# Altium integrated library Linear Technology Power Management System Supervisor, Monitor and Control.IntLib: 1611 symbols (part 52 of 100)
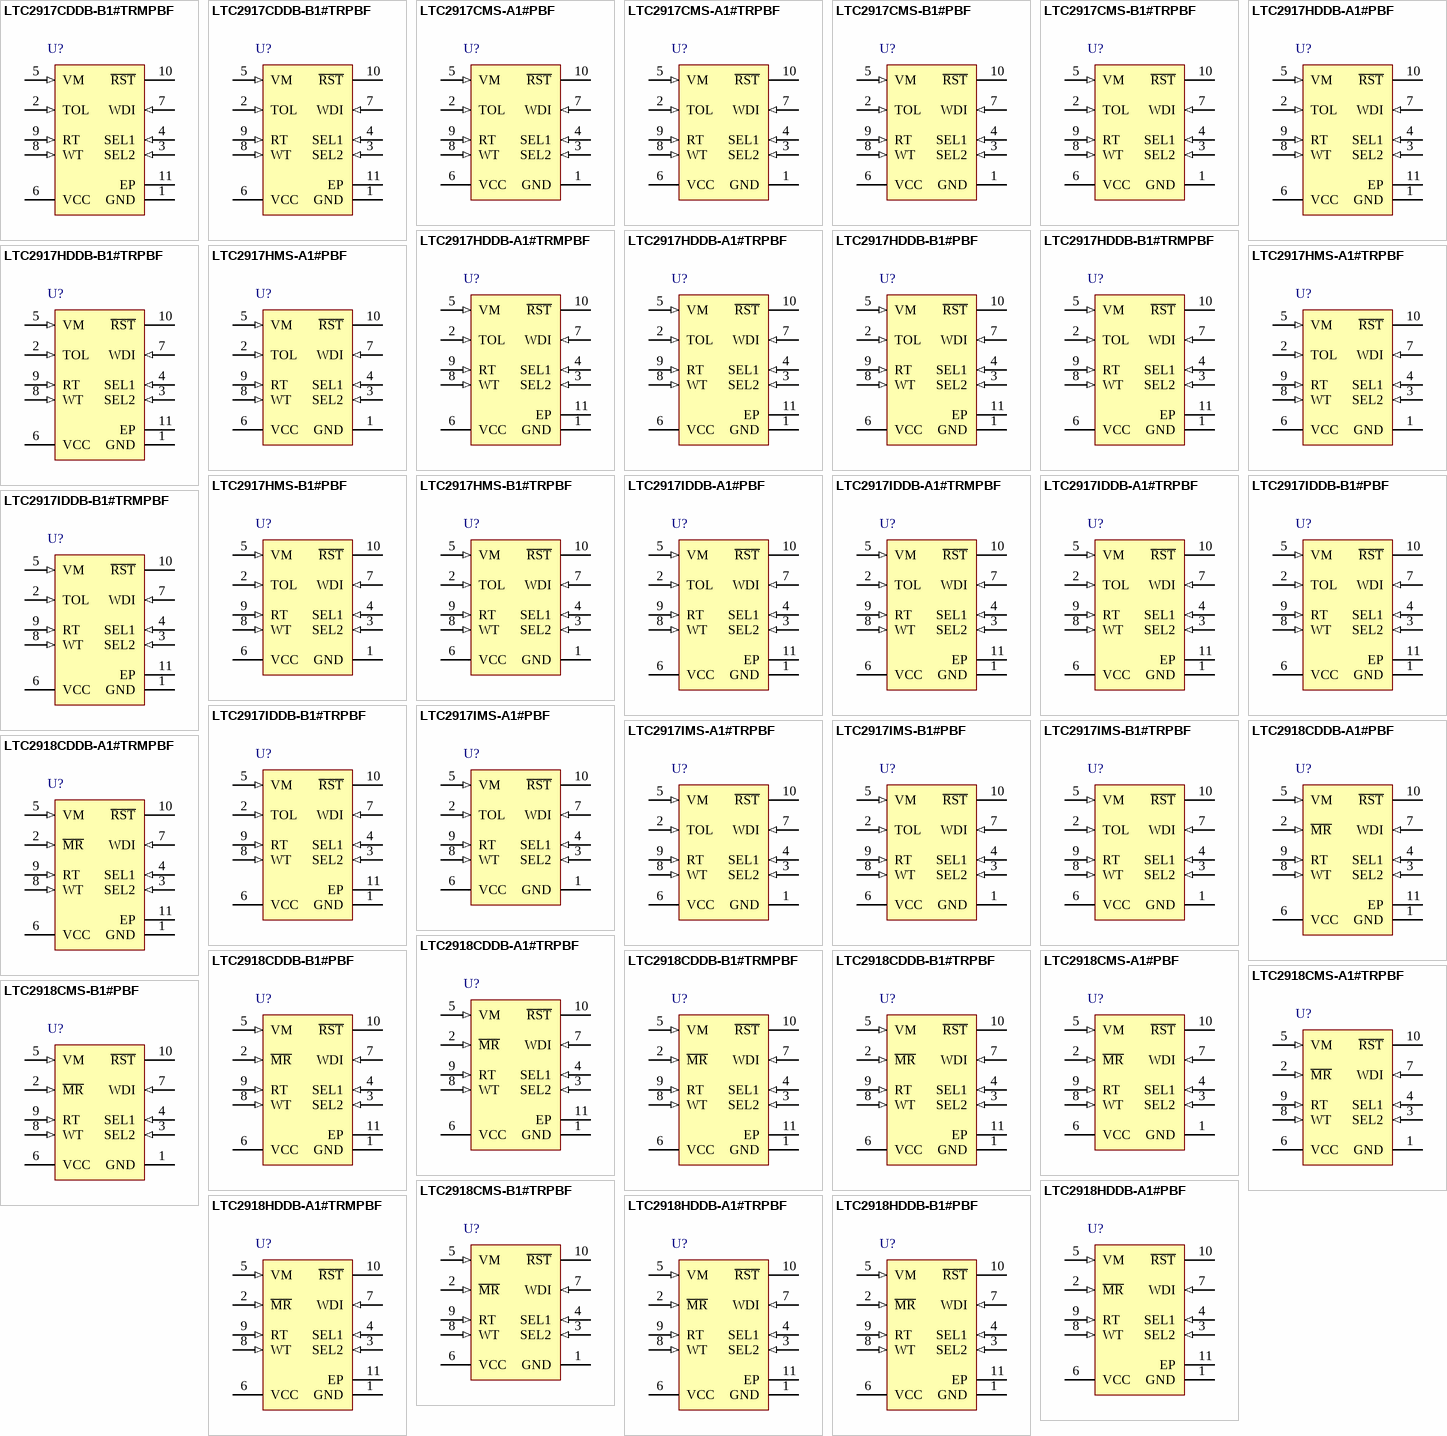
[diagram p96: symbols LTC2917CDDB-B1#TRMPBF to LTC2918HDDB-B1#PBF]

## LTC2918CDDB-A1#TRMPBF
designator U?
Low Voltage Supervisor with 27 Selectable Thresholds and Watchdog Timer, 10-pin SON (DDB10), 0 to 70 degC, Pb-Free, Mini Tape and Reel; Manufacturer: Linear Technology; PartNumber: LTC2918CDDB-A1#TRMPBF; Number of Supplies(#): 1; DatasheetVersion: Rev. B; PackageVersion: Rev. Ø, 06/2010; PackageReference: DDB10; PackageDescription: 10-Pin Plastic DFN, Body 3 x 2 mm, Pitch 0.5 mm; Supplier 1: Digi-Key; Supplier Part Number 1: LTC2918CDDB-A1#TRMPBF-ND; Packing: Mini Tape and Reel; RoHS: TRUE; Mounting Technology: Surface Mount; Code_JEDEC: MO-229; ComponentLink1Description: Manufacturer URL; ComponentLink1URL: http://www.linear.com/; ComponentLink2Description: Datasheet; ComponentLink2URL: http://cds.linear.com/docs/en/datasheet/29178fb.pdf; ComponentLink3Description: Package Specification; ComponentLink3URL: http://cds.linear.com/docs/en/packaging/DFN_10_05-08-1722.pdf
footprint LT-DDB-10_V (SON, 10-Leads, Body 3x2mm, Pitch 0.5mm, Thermal Pad 2.39x0.64mm)
pins: 1 GND (power) "Device Ground.", 2 ~{MR} (in) "Manual Reset Input (Active Low). A low level on the M\R\ input causes the part to issue a reset, which is released one reset timeout after the input goes high. The pin has an internal 100k pull-up to VCC, and thus may (See Datasheet)", 3 SEL2 (in) "Monitor Voltage Select Three-State Input. SEL1, and SEL2 control the nominal threshold voltage that VM is set to monitor. Connect to VCC, GND or leave unconnected in open state. (See Table 1).", 4 SEL1 (in) "Monitor Voltage Select Three-State Input. SEL1, and SEL2 control the nominal threshold voltage that VM is set to monitor. Connect to VCC, GND or leave unconnected in open state. (See Table 1).", 5 VM (in) "Voltage Monitor Input to R\S\T\ comparator. SEL1, SEL2 and TOL inputs select the exact threshold that asserts the R\S\T\ output.", 6 VCC (power) "Power Supply input. Bypass this pin to ground with a 0.1uF ceramic capacitor. A minimum of 1.5V on VCC ensures that the part is out of under voltage lockout and that the voltage thresholds are accurate. Operates as a direct (See Datasheet)", 7 WDI (in) "Watchdog Input. This pin must be driven to change state within a time less than the watchdog upper boundary time, or R\S\T\ will be asserted low. On the LTC2917-B, LTC2918-B, the period must also be greater than the watchdog (See Datasheet)", 8 WT (in) "Watchdog Timer Control Pin. Attach an external capacitor (CWT) to GND to set a watchdog upper boundary timeout time of 72ms/nF. Tie WT to VCC to generate a timeout of approximately 1.6s. Leave WT open to generate a timeout (See Datasheet)", 9 RT (in) "Reset Timeout Control Pin. Attach an external capacitor (CRT) to GND to set a reset timeout of 9ms/nF. Leave RT open to generate a reset timeout of approximately 400us. Tie RT to VCC to generate a reset timeout of (See Datasheet)", 10 ~{RST} (oc) "Open Drain R\S\T\ Output. Asserts low when VM is below the threshold selected by SEL1, SEL2 and TOL input pins. Held low for an adjustable timeout after VM input is above threshold.", 11 EP (power) "Exposed Pad may be left open or connected to device ground."

## LTC2918CDDB-A1#TRPBF
designator U?
Low Voltage Supervisor with 27 Selectable Thresholds and Watchdog Timer, 10-pin SON (DDB10), 0 to 70 degC, Pb-Free, Tape and Reel; Manufacturer: Linear Technology; PartNumber: LTC2918CDDB-A1#TRPBF; Number of Supplies(#): 1; DatasheetVersion: Rev. B; PackageVersion: Rev. Ø, 06/2010; PackageReference: DDB10; PackageDescription: 10-Pin Plastic DFN, Body 3 x 2 mm, Pitch 0.5 mm; Supplier 1: Digi-Key; Supplier Part Number 1: LTC2918CDDB-A1#TRPBF-ND; Packing: Tape and Reel; RoHS: TRUE; Mounting Technology: Surface Mount; Code_JEDEC: MO-229; ComponentLink1Description: Manufacturer URL; ComponentLink1URL: http://www.linear.com/; ComponentLink2Description: Datasheet; ComponentLink2URL: http://cds.linear.com/docs/en/datasheet/29178fb.pdf; ComponentLink3Description: Package Specification; ComponentLink3URL: http://cds.linear.com/docs/en/packaging/DFN_10_05-08-1722.pdf
footprint LT-DDB-10_V (SON, 10-Leads, Body 3x2mm, Pitch 0.5mm, Thermal Pad 2.39x0.64mm)
pins: 1 GND (power) "Device Ground.", 2 ~{MR} (in) "Manual Reset Input (Active Low). A low level on the M\R\ input causes the part to issue a reset, which is released one reset timeout after the input goes high. The pin has an internal 100k pull-up to VCC, and thus may (See Datasheet)", 3 SEL2 (in) "Monitor Voltage Select Three-State Input. SEL1, and SEL2 control the nominal threshold voltage that VM is set to monitor. Connect to VCC, GND or leave unconnected in open state. (See Table 1).", 4 SEL1 (in) "Monitor Voltage Select Three-State Input. SEL1, and SEL2 control the nominal threshold voltage that VM is set to monitor. Connect to VCC, GND or leave unconnected in open state. (See Table 1).", 5 VM (in) "Voltage Monitor Input to R\S\T\ comparator. SEL1, SEL2 and TOL inputs select the exact threshold that asserts the R\S\T\ output.", 6 VCC (power) "Power Supply input. Bypass this pin to ground with a 0.1uF ceramic capacitor. A minimum of 1.5V on VCC ensures that the part is out of under voltage lockout and that the voltage thresholds are accurate. Operates as a direct (See Datasheet)", 7 WDI (in) "Watchdog Input. This pin must be driven to change state within a time less than the watchdog upper boundary time, or R\S\T\ will be asserted low. On the LTC2917-B, LTC2918-B, the period must also be greater than the watchdog (See Datasheet)", 8 WT (in) "Watchdog Timer Control Pin. Attach an external capacitor (CWT) to GND to set a watchdog upper boundary timeout time of 72ms/nF. Tie WT to VCC to generate a timeout of approximately 1.6s. Leave WT open to generate a timeout (See Datasheet)", 9 RT (in) "Reset Timeout Control Pin. Attach an external capacitor (CRT) to GND to set a reset timeout of 9ms/nF. Leave RT open to generate a reset timeout of approximately 400us. Tie RT to VCC to generate a reset timeout of (See Datasheet)", 10 ~{RST} (oc) "Open Drain R\S\T\ Output. Asserts low when VM is below the threshold selected by SEL1, SEL2 and TOL input pins. Held low for an adjustable timeout after VM input is above threshold.", 11 EP (power) "Exposed Pad may be left open or connected to device ground."

## LTC2918CDDB-B1#PBF
designator U?
Low Voltage Supervisor with 27 Selectable Thresholds and Watchdog Timer, 10-pin SON (DDB10), 0 to 70 degC, Pb-Free; Manufacturer: Linear Technology; PartNumber: LTC2918CDDB-B1#PBF; Number of Supplies(#): 1; DatasheetVersion: Rev. B; PackageVersion: Rev. Ø, 06/2010; PackageReference: DDB10; PackageDescription: 10-Pin Plastic DFN, Body 3 x 2 mm, Pitch 0.5 mm; RoHS: TRUE; Mounting Technology: Surface Mount; Code_JEDEC: MO-229; ComponentLink1Description: Manufacturer URL; ComponentLink1URL: http://www.linear.com/; ComponentLink2Description: Datasheet; ComponentLink2URL: http://cds.linear.com/docs/en/datasheet/29178fb.pdf; ComponentLink3Description: Package Specification; ComponentLink3URL: http://cds.linear.com/docs/en/packaging/DFN_10_05-08-1722.pdf
footprint LT-DDB-10_V (SON, 10-Leads, Body 3x2mm, Pitch 0.5mm, Thermal Pad 2.39x0.64mm)
pins: 1 GND (power) "Device Ground.", 2 ~{MR} (in) "Manual Reset Input (Active Low). A low level on the M\R\ input causes the part to issue a reset, which is released one reset timeout after the input goes high. The pin has an internal 100k pull-up to VCC, and thus may (See Datasheet)", 3 SEL2 (in) "Monitor Voltage Select Three-State Input. SEL1, and SEL2 control the nominal threshold voltage that VM is set to monitor. Connect to VCC, GND or leave unconnected in open state. (See Table 1).", 4 SEL1 (in) "Monitor Voltage Select Three-State Input. SEL1, and SEL2 control the nominal threshold voltage that VM is set to monitor. Connect to VCC, GND or leave unconnected in open state. (See Table 1).", 5 VM (in) "Voltage Monitor Input to R\S\T\ comparator. SEL1, SEL2 and TOL inputs select the exact threshold that asserts the R\S\T\ output.", 6 VCC (power) "Power Supply input. Bypass this pin to ground with a 0.1uF ceramic capacitor. A minimum of 1.5V on VCC ensures that the part is out of under voltage lockout and that the voltage thresholds are accurate. Operates as a direct (See Datasheet)", 7 WDI (in) "Watchdog Input. This pin must be driven to change state within a time less than the watchdog upper boundary time, or R\S\T\ will be asserted low. On the LTC2917-B, LTC2918-B, the period must also be greater than the watchdog (See Datasheet)", 8 WT (in) "Watchdog Timer Control Pin. Attach an external capacitor (CWT) to GND to set a watchdog upper boundary timeout time of 72ms/nF. Tie WT to VCC to generate a timeout of approximately 1.6s. Leave WT open to generate a timeout (See Datasheet)", 9 RT (in) "Reset Timeout Control Pin. Attach an external capacitor (CRT) to GND to set a reset timeout of 9ms/nF. Leave RT open to generate a reset timeout of approximately 400us. Tie RT to VCC to generate a reset timeout of (See Datasheet)", 10 ~{RST} (oc) "Open Drain R\S\T\ Output. Asserts low when VM is below the threshold selected by SEL1, SEL2 and TOL input pins. Held low for an adjustable timeout after VM input is above threshold.", 11 EP (power) "Exposed Pad may be left open or connected to device ground."

## LTC2918CDDB-B1#TRMPBF
designator U?
Low Voltage Supervisor with 27 Selectable Thresholds and Watchdog Timer, 10-pin SON (DDB10), 0 to 70 degC, Pb-Free, Mini Tape and Reel; Manufacturer: Linear Technology; PartNumber: LTC2918CDDB-B1#TRMPBF; Number of Supplies(#): 1; DatasheetVersion: Rev. B; PackageVersion: Rev. Ø, 06/2010; PackageReference: DDB10; PackageDescription: 10-Pin Plastic DFN, Body 3 x 2 mm, Pitch 0.5 mm; Supplier 1: Digi-Key; Supplier Part Number 1: LTC2918CDDB-B1#TRMPBF-ND; Packing: Mini Tape and Reel; RoHS: TRUE; Mounting Technology: Surface Mount; Code_JEDEC: MO-229; ComponentLink1Description: Manufacturer URL; ComponentLink1URL: http://www.linear.com/; ComponentLink2Description: Datasheet; ComponentLink2URL: http://cds.linear.com/docs/en/datasheet/29178fb.pdf; ComponentLink3Description: Package Specification; ComponentLink3URL: http://cds.linear.com/docs/en/packaging/DFN_10_05-08-1722.pdf
footprint LT-DDB-10_V (SON, 10-Leads, Body 3x2mm, Pitch 0.5mm, Thermal Pad 2.39x0.64mm)
pins: 1 GND (power) "Device Ground.", 2 ~{MR} (in) "Manual Reset Input (Active Low). A low level on the M\R\ input causes the part to issue a reset, which is released one reset timeout after the input goes high. The pin has an internal 100k pull-up to VCC, and thus may (See Datasheet)", 3 SEL2 (in) "Monitor Voltage Select Three-State Input. SEL1, and SEL2 control the nominal threshold voltage that VM is set to monitor. Connect to VCC, GND or leave unconnected in open state. (See Table 1).", 4 SEL1 (in) "Monitor Voltage Select Three-State Input. SEL1, and SEL2 control the nominal threshold voltage that VM is set to monitor. Connect to VCC, GND or leave unconnected in open state. (See Table 1).", 5 VM (in) "Voltage Monitor Input to R\S\T\ comparator. SEL1, SEL2 and TOL inputs select the exact threshold that asserts the R\S\T\ output.", 6 VCC (power) "Power Supply input. Bypass this pin to ground with a 0.1uF ceramic capacitor. A minimum of 1.5V on VCC ensures that the part is out of under voltage lockout and that the voltage thresholds are accurate. Operates as a direct (See Datasheet)", 7 WDI (in) "Watchdog Input. This pin must be driven to change state within a time less than the watchdog upper boundary time, or R\S\T\ will be asserted low. On the LTC2917-B, LTC2918-B, the period must also be greater than the watchdog (See Datasheet)", 8 WT (in) "Watchdog Timer Control Pin. Attach an external capacitor (CWT) to GND to set a watchdog upper boundary timeout time of 72ms/nF. Tie WT to VCC to generate a timeout of approximately 1.6s. Leave WT open to generate a timeout (See Datasheet)", 9 RT (in) "Reset Timeout Control Pin. Attach an external capacitor (CRT) to GND to set a reset timeout of 9ms/nF. Leave RT open to generate a reset timeout of approximately 400us. Tie RT to VCC to generate a reset timeout of (See Datasheet)", 10 ~{RST} (oc) "Open Drain R\S\T\ Output. Asserts low when VM is below the threshold selected by SEL1, SEL2 and TOL input pins. Held low for an adjustable timeout after VM input is above threshold.", 11 EP (power) "Exposed Pad may be left open or connected to device ground."

## LTC2918CDDB-B1#TRPBF
designator U?
Low Voltage Supervisor with 27 Selectable Thresholds and Watchdog Timer, 10-pin SON (DDB10), 0 to 70 degC, Pb-Free, Tape and Reel; Manufacturer: Linear Technology; PartNumber: LTC2918CDDB-B1#TRPBF; Number of Supplies(#): 1; DatasheetVersion: Rev. B; PackageVersion: Rev. Ø, 06/2010; PackageReference: DDB10; PackageDescription: 10-Pin Plastic DFN, Body 3 x 2 mm, Pitch 0.5 mm; Supplier 1: Digi-Key; Supplier Part Number 1: LTC2918CDDB-B1#TRPBF-ND; Packing: Tape and Reel; RoHS: TRUE; Mounting Technology: Surface Mount; Code_JEDEC: MO-229; ComponentLink1Description: Manufacturer URL; ComponentLink1URL: http://www.linear.com/; ComponentLink2Description: Datasheet; ComponentLink2URL: http://cds.linear.com/docs/en/datasheet/29178fb.pdf; ComponentLink3Description: Package Specification; ComponentLink3URL: http://cds.linear.com/docs/en/packaging/DFN_10_05-08-1722.pdf
footprint LT-DDB-10_V (SON, 10-Leads, Body 3x2mm, Pitch 0.5mm, Thermal Pad 2.39x0.64mm)
pins: 1 GND (power) "Device Ground.", 2 ~{MR} (in) "Manual Reset Input (Active Low). A low level on the M\R\ input causes the part to issue a reset, which is released one reset timeout after the input goes high. The pin has an internal 100k pull-up to VCC, and thus may (See Datasheet)", 3 SEL2 (in) "Monitor Voltage Select Three-State Input. SEL1, and SEL2 control the nominal threshold voltage that VM is set to monitor. Connect to VCC, GND or leave unconnected in open state. (See Table 1).", 4 SEL1 (in) "Monitor Voltage Select Three-State Input. SEL1, and SEL2 control the nominal threshold voltage that VM is set to monitor. Connect to VCC, GND or leave unconnected in open state. (See Table 1).", 5 VM (in) "Voltage Monitor Input to R\S\T\ comparator. SEL1, SEL2 and TOL inputs select the exact threshold that asserts the R\S\T\ output.", 6 VCC (power) "Power Supply input. Bypass this pin to ground with a 0.1uF ceramic capacitor. A minimum of 1.5V on VCC ensures that the part is out of under voltage lockout and that the voltage thresholds are accurate. Operates as a direct (See Datasheet)", 7 WDI (in) "Watchdog Input. This pin must be driven to change state within a time less than the watchdog upper boundary time, or R\S\T\ will be asserted low. On the LTC2917-B, LTC2918-B, the period must also be greater than the watchdog (See Datasheet)", 8 WT (in) "Watchdog Timer Control Pin. Attach an external capacitor (CWT) to GND to set a watchdog upper boundary timeout time of 72ms/nF. Tie WT to VCC to generate a timeout of approximately 1.6s. Leave WT open to generate a timeout (See Datasheet)", 9 RT (in) "Reset Timeout Control Pin. Attach an external capacitor (CRT) to GND to set a reset timeout of 9ms/nF. Leave RT open to generate a reset timeout of approximately 400us. Tie RT to VCC to generate a reset timeout of (See Datasheet)", 10 ~{RST} (oc) "Open Drain R\S\T\ Output. Asserts low when VM is below the threshold selected by SEL1, SEL2 and TOL input pins. Held low for an adjustable timeout after VM input is above threshold.", 11 EP (power) "Exposed Pad may be left open or connected to device ground."

## LTC2918CMS-A1#PBF
designator U?
Low Voltage Supervisor with 27 Selectable Thresholds and Watchdog Timer, 10-pin SOP (MS-10), 0 to 70 degC, Pb-Free; Manufacturer: Linear Technology; PartNumber: LTC2918CMS-A1#PBF; Number of Supplies(#): 1; DatasheetVersion: Rev. B; PackageVersion: Rev. E, 06/2010; PackageReference: MS-10; PackageDescription: 10-Pin Plastic MSOP, Body 3 x 3 mm, Pitch 0.5 mm; Supplier 1: Digi-Key; Supplier Part Number 1: LTC2918CMS-A1#PBF-ND; Supplier 2: Newark; Supplier Part Number 2: 56M6997; RoHS: TRUE; Mounting Technology: Surface Mount; ComponentLink1Description: Manufacturer URL; ComponentLink1URL: http://www.linear.com/; ComponentLink2Description: Datasheet; ComponentLink2URL: http://cds.linear.com/docs/en/datasheet/29178fb.pdf; ComponentLink3Description: Package Specification; ComponentLink3URL: http://cds.linear.com/docs/en/packaging/05081661_F_MS.pdf
footprint LT-MS-10_N (SOP, 10-Leads, Body 3.1x3.1mm, Pitch 0.5mm, IPC Medium Density)
footprint LT-MS-10_L (SOP, 10-Leads, Body 3.1x3.1mm, Pitch 0.5mm, IPC High Density)
footprint LT-MS-10_M (SOP, 10-Leads, Body 3.1x3.1mm, Pitch 0.5mm, IPC Low Density)
pins: 1 GND (power) "Device Ground.", 2 ~{MR} (in) "Manual Reset Input (Active Low). A low level on the M\R\ input causes the part to issue a reset, which is released one reset timeout after the input goes high. The pin has an internal 100k pull-up to VCC, and thus may (See Datasheet)", 3 SEL2 (in) "Monitor Voltage Select Three-State Input. SEL1, and SEL2 control the nominal threshold voltage that VM is set to monitor. Connect to VCC, GND or leave unconnected in open state. (See Table 1).", 4 SEL1 (in) "Monitor Voltage Select Three-State Input. SEL1, and SEL2 control the nominal threshold voltage that VM is set to monitor. Connect to VCC, GND or leave unconnected in open state. (See Table 1).", 5 VM (in) "Voltage Monitor Input to R\S\T\ comparator. SEL1, SEL2 and TOL inputs select the exact threshold that asserts the R\S\T\ output.", 6 VCC (power) "Power Supply input. Bypass this pin to ground with a 0.1uF ceramic capacitor. A minimum of 1.5V on VCC ensures that the part is out of under voltage lockout and that the voltage thresholds are accurate. Operates as a direct (See Datasheet)", 7 WDI (in) "Watchdog Input. This pin must be driven to change state within a time less than the watchdog upper boundary time, or R\S\T\ will be asserted low. On the LTC2917-B, LTC2918-B, the period must also be greater than the watchdog (See Datasheet)", 8 WT (in) "Watchdog Timer Control Pin. Attach an external capacitor (CWT) to GND to set a watchdog upper boundary timeout time of 72ms/nF. Tie WT to VCC to generate a timeout of approximately 1.6s. Leave WT open to generate a timeout (See Datasheet)", 9 RT (in) "Reset Timeout Control Pin. Attach an external capacitor (CRT) to GND to set a reset timeout of 9ms/nF. Leave RT open to generate a reset timeout of approximately 400us. Tie RT to VCC to generate a reset timeout of (See Datasheet)", 10 ~{RST} (oc) "Open Drain R\S\T\ Output. Asserts low when VM is below the threshold selected by SEL1, SEL2 and TOL input pins. Held low for an adjustable timeout after VM input is above threshold."

## LTC2918CMS-A1#TRPBF
designator U?
Low Voltage Supervisor with 27 Selectable Thresholds and Watchdog Timer, 10-pin SOP (MS-10), 0 to 70 degC, Pb-Free, Tape and Reel; Manufacturer: Linear Technology; PartNumber: LTC2918CMS-A1#TRPBF; Number of Supplies(#): 1; DatasheetVersion: Rev. B; PackageVersion: Rev. E, 06/2010; PackageReference: MS-10; PackageDescription: 10-Pin Plastic MSOP, Body 3 x 3 mm, Pitch 0.5 mm; Supplier 1: Digi-Key; Supplier Part Number 1: LTC2918CMS-A1#TRPBF-ND; Packing: Tape and Reel; RoHS: TRUE; Mounting Technology: Surface Mount; ComponentLink1Description: Manufacturer URL; ComponentLink1URL: http://www.linear.com/; ComponentLink2Description: Datasheet; ComponentLink2URL: http://cds.linear.com/docs/en/datasheet/29178fb.pdf; ComponentLink3Description: Package Specification; ComponentLink3URL: http://cds.linear.com/docs/en/packaging/05081661_F_MS.pdf
footprint LT-MS-10_N (SOP, 10-Leads, Body 3.1x3.1mm, Pitch 0.5mm, IPC Medium Density)
footprint LT-MS-10_L (SOP, 10-Leads, Body 3.1x3.1mm, Pitch 0.5mm, IPC High Density)
footprint LT-MS-10_M (SOP, 10-Leads, Body 3.1x3.1mm, Pitch 0.5mm, IPC Low Density)
pins: 1 GND (power) "Device Ground.", 2 ~{MR} (in) "Manual Reset Input (Active Low). A low level on the M\R\ input causes the part to issue a reset, which is released one reset timeout after the input goes high. The pin has an internal 100k pull-up to VCC, and thus may (See Datasheet)", 3 SEL2 (in) "Monitor Voltage Select Three-State Input. SEL1, and SEL2 control the nominal threshold voltage that VM is set to monitor. Connect to VCC, GND or leave unconnected in open state. (See Table 1).", 4 SEL1 (in) "Monitor Voltage Select Three-State Input. SEL1, and SEL2 control the nominal threshold voltage that VM is set to monitor. Connect to VCC, GND or leave unconnected in open state. (See Table 1).", 5 VM (in) "Voltage Monitor Input to R\S\T\ comparator. SEL1, SEL2 and TOL inputs select the exact threshold that asserts the R\S\T\ output.", 6 VCC (power) "Power Supply input. Bypass this pin to ground with a 0.1uF ceramic capacitor. A minimum of 1.5V on VCC ensures that the part is out of under voltage lockout and that the voltage thresholds are accurate. Operates as a direct (See Datasheet)", 7 WDI (in) "Watchdog Input. This pin must be driven to change state within a time less than the watchdog upper boundary time, or R\S\T\ will be asserted low. On the LTC2917-B, LTC2918-B, the period must also be greater than the watchdog (See Datasheet)", 8 WT (in) "Watchdog Timer Control Pin. Attach an external capacitor (CWT) to GND to set a watchdog upper boundary timeout time of 72ms/nF. Tie WT to VCC to generate a timeout of approximately 1.6s. Leave WT open to generate a timeout (See Datasheet)", 9 RT (in) "Reset Timeout Control Pin. Attach an external capacitor (CRT) to GND to set a reset timeout of 9ms/nF. Leave RT open to generate a reset timeout of approximately 400us. Tie RT to VCC to generate a reset timeout of (See Datasheet)", 10 ~{RST} (oc) "Open Drain R\S\T\ Output. Asserts low when VM is below the threshold selected by SEL1, SEL2 and TOL input pins. Held low for an adjustable timeout after VM input is above threshold."

## LTC2918CMS-B1#PBF
designator U?
Low Voltage Supervisor with 27 Selectable Thresholds and Watchdog Timer, 10-pin SOP (MS-10), 0 to 70 degC, Pb-Free; Manufacturer: Linear Technology; PartNumber: LTC2918CMS-B1#PBF; Number of Supplies(#): 1; DatasheetVersion: Rev. B; PackageVersion: Rev. E, 06/2010; PackageReference: MS-10; PackageDescription: 10-Pin Plastic MSOP, Body 3 x 3 mm, Pitch 0.5 mm; Supplier 1: Digi-Key; Supplier Part Number 1: LTC2918CMS-B1#PBF-ND; Supplier 2: Farnell; Supplier Part Number 2: 2295431; RoHS: TRUE; Mounting Technology: Surface Mount; ComponentLink1Description: Manufacturer URL; ComponentLink1URL: http://www.linear.com/; ComponentLink2Description: Datasheet; ComponentLink2URL: http://cds.linear.com/docs/en/datasheet/29178fb.pdf; ComponentLink3Description: Package Specification; ComponentLink3URL: http://cds.linear.com/docs/en/packaging/05081661_F_MS.pdf
footprint LT-MS-10_N (SOP, 10-Leads, Body 3.1x3.1mm, Pitch 0.5mm, IPC Medium Density)
footprint LT-MS-10_L (SOP, 10-Leads, Body 3.1x3.1mm, Pitch 0.5mm, IPC High Density)
footprint LT-MS-10_M (SOP, 10-Leads, Body 3.1x3.1mm, Pitch 0.5mm, IPC Low Density)
pins: 1 GND (power) "Device Ground.", 2 ~{MR} (in) "Manual Reset Input (Active Low). A low level on the M\R\ input causes the part to issue a reset, which is released one reset timeout after the input goes high. The pin has an internal 100k pull-up to VCC, and thus may (See Datasheet)", 3 SEL2 (in) "Monitor Voltage Select Three-State Input. SEL1, and SEL2 control the nominal threshold voltage that VM is set to monitor. Connect to VCC, GND or leave unconnected in open state. (See Table 1).", 4 SEL1 (in) "Monitor Voltage Select Three-State Input. SEL1, and SEL2 control the nominal threshold voltage that VM is set to monitor. Connect to VCC, GND or leave unconnected in open state. (See Table 1).", 5 VM (in) "Voltage Monitor Input to R\S\T\ comparator. SEL1, SEL2 and TOL inputs select the exact threshold that asserts the R\S\T\ output.", 6 VCC (power) "Power Supply input. Bypass this pin to ground with a 0.1uF ceramic capacitor. A minimum of 1.5V on VCC ensures that the part is out of under voltage lockout and that the voltage thresholds are accurate. Operates as a direct (See Datasheet)", 7 WDI (in) "Watchdog Input. This pin must be driven to change state within a time less than the watchdog upper boundary time, or R\S\T\ will be asserted low. On the LTC2917-B, LTC2918-B, the period must also be greater than the watchdog (See Datasheet)", 8 WT (in) "Watchdog Timer Control Pin. Attach an external capacitor (CWT) to GND to set a watchdog upper boundary timeout time of 72ms/nF. Tie WT to VCC to generate a timeout of approximately 1.6s. Leave WT open to generate a timeout (See Datasheet)", 9 RT (in) "Reset Timeout Control Pin. Attach an external capacitor (CRT) to GND to set a reset timeout of 9ms/nF. Leave RT open to generate a reset timeout of approximately 400us. Tie RT to VCC to generate a reset timeout of (See Datasheet)", 10 ~{RST} (oc) "Open Drain R\S\T\ Output. Asserts low when VM is below the threshold selected by SEL1, SEL2 and TOL input pins. Held low for an adjustable timeout after VM input is above threshold."

## LTC2918CMS-B1#TRPBF
designator U?
Low Voltage Supervisor with 27 Selectable Thresholds and Watchdog Timer, 10-pin SOP (MS-10), 0 to 70 degC, Pb-Free, Tape and Reel; Manufacturer: Linear Technology; PartNumber: LTC2918CMS-B1#TRPBF; Number of Supplies(#): 1; DatasheetVersion: Rev. B; PackageVersion: Rev. E, 06/2010; PackageReference: MS-10; PackageDescription: 10-Pin Plastic MSOP, Body 3 x 3 mm, Pitch 0.5 mm; Supplier 1: Digi-Key; Supplier Part Number 1: LTC2918CMS-B1#TRPBF-ND; Packing: Tape and Reel; RoHS: TRUE; Mounting Technology: Surface Mount; ComponentLink1Description: Manufacturer URL; ComponentLink1URL: http://www.linear.com/; ComponentLink2Description: Datasheet; ComponentLink2URL: http://cds.linear.com/docs/en/datasheet/29178fb.pdf; ComponentLink3Description: Package Specification; ComponentLink3URL: http://cds.linear.com/docs/en/packaging/05081661_F_MS.pdf
footprint LT-MS-10_N (SOP, 10-Leads, Body 3.1x3.1mm, Pitch 0.5mm, IPC Medium Density)
footprint LT-MS-10_L (SOP, 10-Leads, Body 3.1x3.1mm, Pitch 0.5mm, IPC High Density)
footprint LT-MS-10_M (SOP, 10-Leads, Body 3.1x3.1mm, Pitch 0.5mm, IPC Low Density)
pins: 1 GND (power) "Device Ground.", 2 ~{MR} (in) "Manual Reset Input (Active Low). A low level on the M\R\ input causes the part to issue a reset, which is released one reset timeout after the input goes high. The pin has an internal 100k pull-up to VCC, and thus may (See Datasheet)", 3 SEL2 (in) "Monitor Voltage Select Three-State Input. SEL1, and SEL2 control the nominal threshold voltage that VM is set to monitor. Connect to VCC, GND or leave unconnected in open state. (See Table 1).", 4 SEL1 (in) "Monitor Voltage Select Three-State Input. SEL1, and SEL2 control the nominal threshold voltage that VM is set to monitor. Connect to VCC, GND or leave unconnected in open state. (See Table 1).", 5 VM (in) "Voltage Monitor Input to R\S\T\ comparator. SEL1, SEL2 and TOL inputs select the exact threshold that asserts the R\S\T\ output.", 6 VCC (power) "Power Supply input. Bypass this pin to ground with a 0.1uF ceramic capacitor. A minimum of 1.5V on VCC ensures that the part is out of under voltage lockout and that the voltage thresholds are accurate. Operates as a direct (See Datasheet)", 7 WDI (in) "Watchdog Input. This pin must be driven to change state within a time less than the watchdog upper boundary time, or R\S\T\ will be asserted low. On the LTC2917-B, LTC2918-B, the period must also be greater than the watchdog (See Datasheet)", 8 WT (in) "Watchdog Timer Control Pin. Attach an external capacitor (CWT) to GND to set a watchdog upper boundary timeout time of 72ms/nF. Tie WT to VCC to generate a timeout of approximately 1.6s. Leave WT open to generate a timeout (See Datasheet)", 9 RT (in) "Reset Timeout Control Pin. Attach an external capacitor (CRT) to GND to set a reset timeout of 9ms/nF. Leave RT open to generate a reset timeout of approximately 400us. Tie RT to VCC to generate a reset timeout of (See Datasheet)", 10 ~{RST} (oc) "Open Drain R\S\T\ Output. Asserts low when VM is below the threshold selected by SEL1, SEL2 and TOL input pins. Held low for an adjustable timeout after VM input is above threshold."

## LTC2918HDDB-A1#PBF
designator U?
Low Voltage Supervisor with 27 Selectable Thresholds and Watchdog Timer, 10-pin SON (DDB10), -40 to 125 degC, Pb-Free; Manufacturer: Linear Technology; PartNumber: LTC2918HDDB-A1#PBF; Number of Supplies(#): 1; DatasheetVersion: Rev. B; PackageVersion: Rev. Ø, 06/2010; PackageReference: DDB10; PackageDescription: 10-Pin Plastic DFN, Body 3 x 2 mm, Pitch 0.5 mm; RoHS: TRUE; Mounting Technology: Surface Mount; Code_JEDEC: MO-229; ComponentLink1Description: Manufacturer URL; ComponentLink1URL: http://www.linear.com/; ComponentLink2Description: Datasheet; ComponentLink2URL: http://cds.linear.com/docs/en/datasheet/29178fb.pdf; ComponentLink3Description: Package Specification; ComponentLink3URL: http://cds.linear.com/docs/en/packaging/DFN_10_05-08-1722.pdf
footprint LT-DDB-10_V (SON, 10-Leads, Body 3x2mm, Pitch 0.5mm, Thermal Pad 2.39x0.64mm)
pins: 1 GND (power) "Device Ground.", 2 ~{MR} (in) "Manual Reset Input (Active Low). A low level on the M\R\ input causes the part to issue a reset, which is released one reset timeout after the input goes high. The pin has an internal 100k pull-up to VCC, and thus may (See Datasheet)", 3 SEL2 (in) "Monitor Voltage Select Three-State Input. SEL1, and SEL2 control the nominal threshold voltage that VM is set to monitor. Connect to VCC, GND or leave unconnected in open state. (See Table 1).", 4 SEL1 (in) "Monitor Voltage Select Three-State Input. SEL1, and SEL2 control the nominal threshold voltage that VM is set to monitor. Connect to VCC, GND or leave unconnected in open state. (See Table 1).", 5 VM (in) "Voltage Monitor Input to R\S\T\ comparator. SEL1, SEL2 and TOL inputs select the exact threshold that asserts the R\S\T\ output.", 6 VCC (power) "Power Supply input. Bypass this pin to ground with a 0.1uF ceramic capacitor. A minimum of 1.5V on VCC ensures that the part is out of under voltage lockout and that the voltage thresholds are accurate. Operates as a direct (See Datasheet)", 7 WDI (in) "Watchdog Input. This pin must be driven to change state within a time less than the watchdog upper boundary time, or R\S\T\ will be asserted low. On the LTC2917-B, LTC2918-B, the period must also be greater than the watchdog (See Datasheet)", 8 WT (in) "Watchdog Timer Control Pin. Attach an external capacitor (CWT) to GND to set a watchdog upper boundary timeout time of 72ms/nF. Tie WT to VCC to generate a timeout of approximately 1.6s. Leave WT open to generate a timeout (See Datasheet)", 9 RT (in) "Reset Timeout Control Pin. Attach an external capacitor (CRT) to GND to set a reset timeout of 9ms/nF. Leave RT open to generate a reset timeout of approximately 400us. Tie RT to VCC to generate a reset timeout of (See Datasheet)", 10 ~{RST} (oc) "Open Drain R\S\T\ Output. Asserts low when VM is below the threshold selected by SEL1, SEL2 and TOL input pins. Held low for an adjustable timeout after VM input is above threshold.", 11 EP (power) "Exposed Pad may be left open or connected to device ground."

## LTC2918HDDB-A1#TRMPBF
designator U?
Low Voltage Supervisor with 27 Selectable Thresholds and Watchdog Timer, 10-pin SON (DDB10), -40 to 125 degC, Pb-Free, Mini Tape and Reel; Manufacturer: Linear Technology; PartNumber: LTC2918HDDB-A1#TRMPBF; Number of Supplies(#): 1; DatasheetVersion: Rev. B; PackageVersion: Rev. Ø, 06/2010; PackageReference: DDB10; PackageDescription: 10-Pin Plastic DFN, Body 3 x 2 mm, Pitch 0.5 mm; Supplier 1: Digi-Key; Supplier Part Number 1: LTC2918HDDB-A1#TRMPBF-ND; Packing: Mini Tape and Reel; RoHS: TRUE; Mounting Technology: Surface Mount; Code_JEDEC: MO-229; ComponentLink1Description: Manufacturer URL; ComponentLink1URL: http://www.linear.com/; ComponentLink2Description: Datasheet; ComponentLink2URL: http://cds.linear.com/docs/en/datasheet/29178fb.pdf; ComponentLink3Description: Package Specification; ComponentLink3URL: http://cds.linear.com/docs/en/packaging/DFN_10_05-08-1722.pdf
footprint LT-DDB-10_V (SON, 10-Leads, Body 3x2mm, Pitch 0.5mm, Thermal Pad 2.39x0.64mm)
pins: 1 GND (power) "Device Ground.", 2 ~{MR} (in) "Manual Reset Input (Active Low). A low level on the M\R\ input causes the part to issue a reset, which is released one reset timeout after the input goes high. The pin has an internal 100k pull-up to VCC, and thus may (See Datasheet)", 3 SEL2 (in) "Monitor Voltage Select Three-State Input. SEL1, and SEL2 control the nominal threshold voltage that VM is set to monitor. Connect to VCC, GND or leave unconnected in open state. (See Table 1).", 4 SEL1 (in) "Monitor Voltage Select Three-State Input. SEL1, and SEL2 control the nominal threshold voltage that VM is set to monitor. Connect to VCC, GND or leave unconnected in open state. (See Table 1).", 5 VM (in) "Voltage Monitor Input to R\S\T\ comparator. SEL1, SEL2 and TOL inputs select the exact threshold that asserts the R\S\T\ output.", 6 VCC (power) "Power Supply input. Bypass this pin to ground with a 0.1uF ceramic capacitor. A minimum of 1.5V on VCC ensures that the part is out of under voltage lockout and that the voltage thresholds are accurate. Operates as a direct (See Datasheet)", 7 WDI (in) "Watchdog Input. This pin must be driven to change state within a time less than the watchdog upper boundary time, or R\S\T\ will be asserted low. On the LTC2917-B, LTC2918-B, the period must also be greater than the watchdog (See Datasheet)", 8 WT (in) "Watchdog Timer Control Pin. Attach an external capacitor (CWT) to GND to set a watchdog upper boundary timeout time of 72ms/nF. Tie WT to VCC to generate a timeout of approximately 1.6s. Leave WT open to generate a timeout (See Datasheet)", 9 RT (in) "Reset Timeout Control Pin. Attach an external capacitor (CRT) to GND to set a reset timeout of 9ms/nF. Leave RT open to generate a reset timeout of approximately 400us. Tie RT to VCC to generate a reset timeout of (See Datasheet)", 10 ~{RST} (oc) "Open Drain R\S\T\ Output. Asserts low when VM is below the threshold selected by SEL1, SEL2 and TOL input pins. Held low for an adjustable timeout after VM input is above threshold.", 11 EP (power) "Exposed Pad may be left open or connected to device ground."

## LTC2918HDDB-A1#TRPBF
designator U?
Low Voltage Supervisor with 27 Selectable Thresholds and Watchdog Timer, 10-pin SON (DDB10), -40 to 125 degC, Pb-Free, Tape and Reel; Manufacturer: Linear Technology; PartNumber: LTC2918HDDB-A1#TRPBF; Number of Supplies(#): 1; DatasheetVersion: Rev. B; PackageVersion: Rev. Ø, 06/2010; PackageReference: DDB10; PackageDescription: 10-Pin Plastic DFN, Body 3 x 2 mm, Pitch 0.5 mm; Supplier 1: Digi-Key; Supplier Part Number 1: LTC2918HDDB-A1#TRPBF-ND; Packing: Tape and Reel; RoHS: TRUE; Mounting Technology: Surface Mount; Code_JEDEC: MO-229; ComponentLink1Description: Manufacturer URL; ComponentLink1URL: http://www.linear.com/; ComponentLink2Description: Datasheet; ComponentLink2URL: http://cds.linear.com/docs/en/datasheet/29178fb.pdf; ComponentLink3Description: Package Specification; ComponentLink3URL: http://cds.linear.com/docs/en/packaging/DFN_10_05-08-1722.pdf
footprint LT-DDB-10_V (SON, 10-Leads, Body 3x2mm, Pitch 0.5mm, Thermal Pad 2.39x0.64mm)
pins: 1 GND (power) "Device Ground.", 2 ~{MR} (in) "Manual Reset Input (Active Low). A low level on the M\R\ input causes the part to issue a reset, which is released one reset timeout after the input goes high. The pin has an internal 100k pull-up to VCC, and thus may (See Datasheet)", 3 SEL2 (in) "Monitor Voltage Select Three-State Input. SEL1, and SEL2 control the nominal threshold voltage that VM is set to monitor. Connect to VCC, GND or leave unconnected in open state. (See Table 1).", 4 SEL1 (in) "Monitor Voltage Select Three-State Input. SEL1, and SEL2 control the nominal threshold voltage that VM is set to monitor. Connect to VCC, GND or leave unconnected in open state. (See Table 1).", 5 VM (in) "Voltage Monitor Input to R\S\T\ comparator. SEL1, SEL2 and TOL inputs select the exact threshold that asserts the R\S\T\ output.", 6 VCC (power) "Power Supply input. Bypass this pin to ground with a 0.1uF ceramic capacitor. A minimum of 1.5V on VCC ensures that the part is out of under voltage lockout and that the voltage thresholds are accurate. Operates as a direct (See Datasheet)", 7 WDI (in) "Watchdog Input. This pin must be driven to change state within a time less than the watchdog upper boundary time, or R\S\T\ will be asserted low. On the LTC2917-B, LTC2918-B, the period must also be greater than the watchdog (See Datasheet)", 8 WT (in) "Watchdog Timer Control Pin. Attach an external capacitor (CWT) to GND to set a watchdog upper boundary timeout time of 72ms/nF. Tie WT to VCC to generate a timeout of approximately 1.6s. Leave WT open to generate a timeout (See Datasheet)", 9 RT (in) "Reset Timeout Control Pin. Attach an external capacitor (CRT) to GND to set a reset timeout of 9ms/nF. Leave RT open to generate a reset timeout of approximately 400us. Tie RT to VCC to generate a reset timeout of (See Datasheet)", 10 ~{RST} (oc) "Open Drain R\S\T\ Output. Asserts low when VM is below the threshold selected by SEL1, SEL2 and TOL input pins. Held low for an adjustable timeout after VM input is above threshold.", 11 EP (power) "Exposed Pad may be left open or connected to device ground."

## LTC2918HDDB-B1#PBF
designator U?
Low Voltage Supervisor with 27 Selectable Thresholds and Watchdog Timer, 10-pin SON (DDB10), -40 to 125 degC, Pb-Free; Manufacturer: Linear Technology; PartNumber: LTC2918HDDB-B1#PBF; Number of Supplies(#): 1; DatasheetVersion: Rev. B; PackageVersion: Rev. Ø, 06/2010; PackageReference: DDB10; PackageDescription: 10-Pin Plastic DFN, Body 3 x 2 mm, Pitch 0.5 mm; RoHS: TRUE; Mounting Technology: Surface Mount; Code_JEDEC: MO-229; ComponentLink1Description: Manufacturer URL; ComponentLink1URL: http://www.linear.com/; ComponentLink2Description: Datasheet; ComponentLink2URL: http://cds.linear.com/docs/en/datasheet/29178fb.pdf; ComponentLink3Description: Package Specification; ComponentLink3URL: http://cds.linear.com/docs/en/packaging/DFN_10_05-08-1722.pdf
footprint LT-DDB-10_V (SON, 10-Leads, Body 3x2mm, Pitch 0.5mm, Thermal Pad 2.39x0.64mm)
pins: 1 GND (power) "Device Ground.", 2 ~{MR} (in) "Manual Reset Input (Active Low). A low level on the M\R\ input causes the part to issue a reset, which is released one reset timeout after the input goes high. The pin has an internal 100k pull-up to VCC, and thus may (See Datasheet)", 3 SEL2 (in) "Monitor Voltage Select Three-State Input. SEL1, and SEL2 control the nominal threshold voltage that VM is set to monitor. Connect to VCC, GND or leave unconnected in open state. (See Table 1).", 4 SEL1 (in) "Monitor Voltage Select Three-State Input. SEL1, and SEL2 control the nominal threshold voltage that VM is set to monitor. Connect to VCC, GND or leave unconnected in open state. (See Table 1).", 5 VM (in) "Voltage Monitor Input to R\S\T\ comparator. SEL1, SEL2 and TOL inputs select the exact threshold that asserts the R\S\T\ output.", 6 VCC (power) "Power Supply input. Bypass this pin to ground with a 0.1uF ceramic capacitor. A minimum of 1.5V on VCC ensures that the part is out of under voltage lockout and that the voltage thresholds are accurate. Operates as a direct (See Datasheet)", 7 WDI (in) "Watchdog Input. This pin must be driven to change state within a time less than the watchdog upper boundary time, or R\S\T\ will be asserted low. On the LTC2917-B, LTC2918-B, the period must also be greater than the watchdog (See Datasheet)", 8 WT (in) "Watchdog Timer Control Pin. Attach an external capacitor (CWT) to GND to set a watchdog upper boundary timeout time of 72ms/nF. Tie WT to VCC to generate a timeout of approximately 1.6s. Leave WT open to generate a timeout (See Datasheet)", 9 RT (in) "Reset Timeout Control Pin. Attach an external capacitor (CRT) to GND to set a reset timeout of 9ms/nF. Leave RT open to generate a reset timeout of approximately 400us. Tie RT to VCC to generate a reset timeout of (See Datasheet)", 10 ~{RST} (oc) "Open Drain R\S\T\ Output. Asserts low when VM is below the threshold selected by SEL1, SEL2 and TOL input pins. Held low for an adjustable timeout after VM input is above threshold.", 11 EP (power) "Exposed Pad may be left open or connected to device ground."

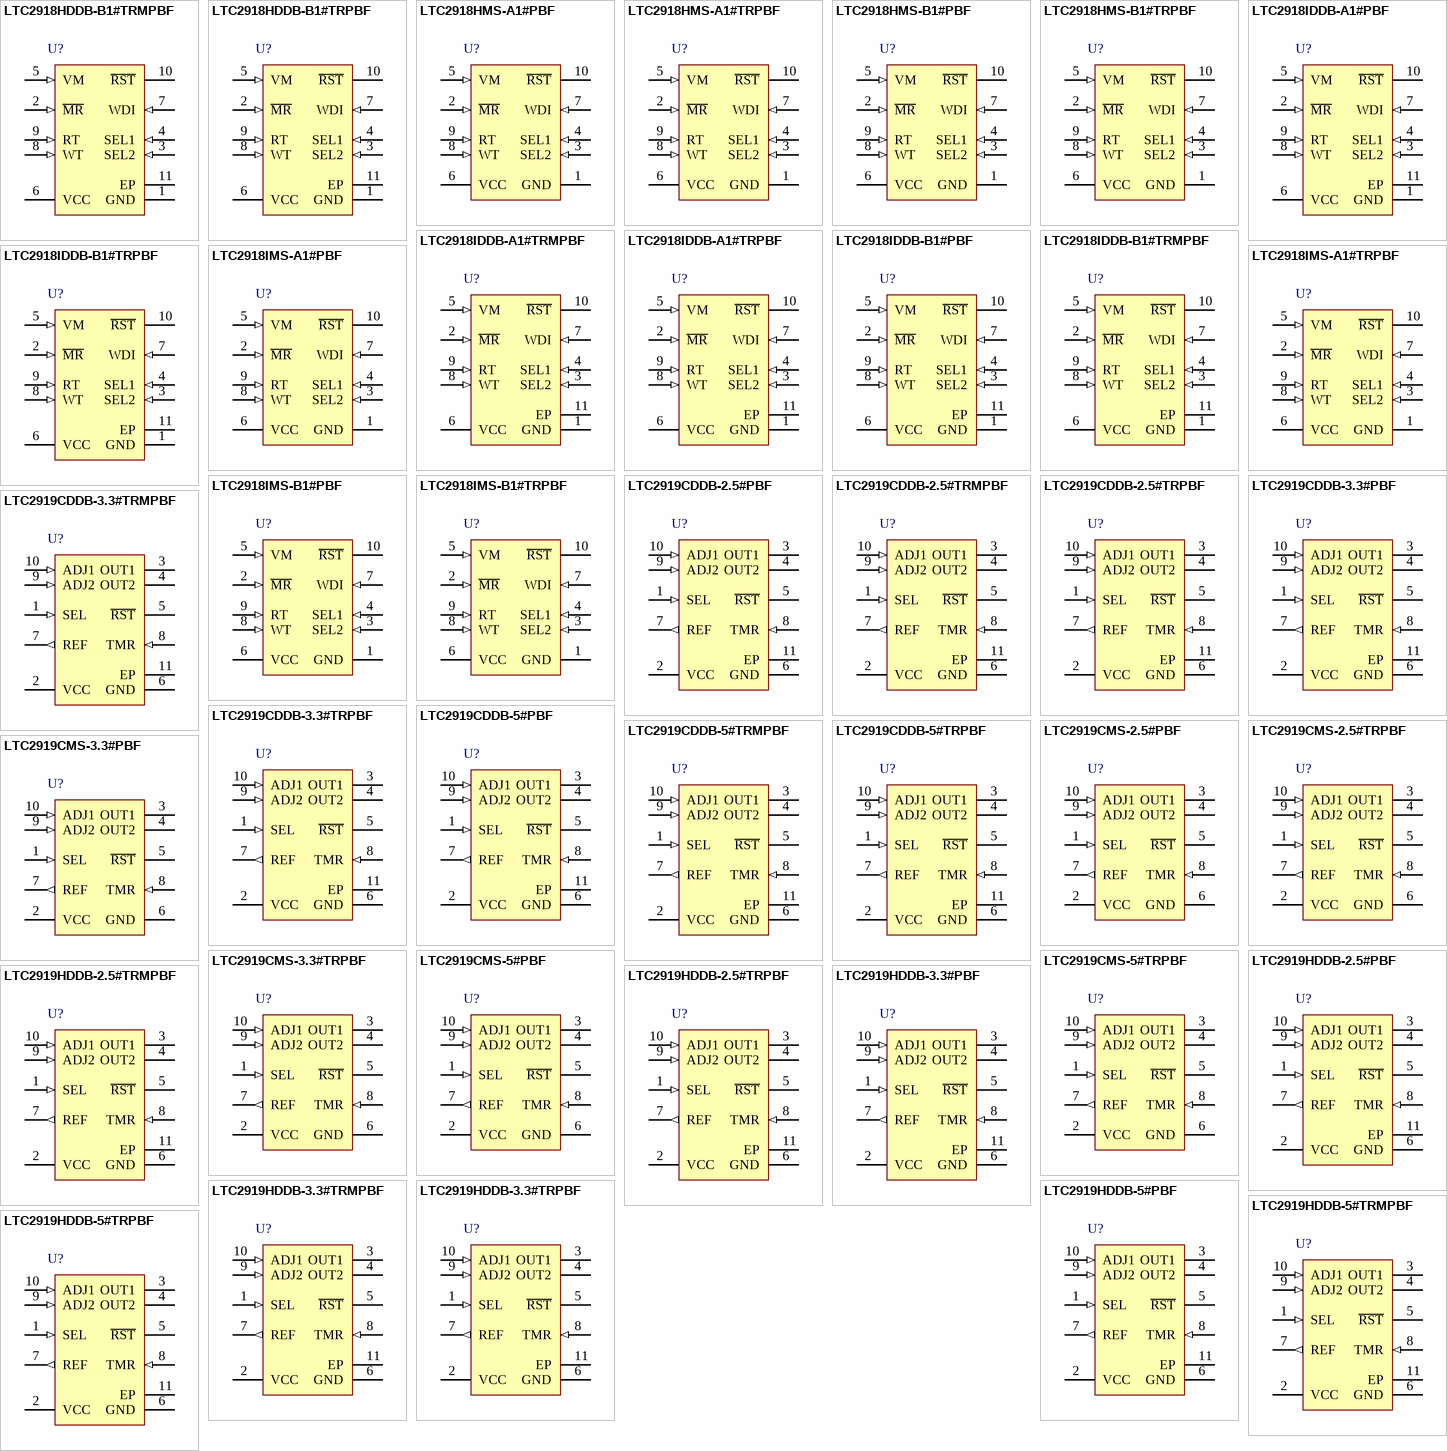
[diagram p25: symbols LTC2918HDDB-B1#TRMPBF to LTC2919HDDB-5#TRPBF]

## LTC2918HDDB-B1#TRMPBF
designator U?
Low Voltage Supervisor with 27 Selectable Thresholds and Watchdog Timer, 10-pin SON (DDB10), -40 to 125 degC, Pb-Free, Mini Tape and Reel; Manufacturer: Linear Technology; PartNumber: LTC2918HDDB-B1#TRMPBF; Number of Supplies(#): 1; DatasheetVersion: Rev. B; PackageVersion: Rev. Ø, 06/2010; PackageReference: DDB10; PackageDescription: 10-Pin Plastic DFN, Body 3 x 2 mm, Pitch 0.5 mm; Supplier 1: Digi-Key; Supplier Part Number 1: LTC2918HDDB-B1#TRMPBF-ND; Packing: Mini Tape and Reel; RoHS: TRUE; Mounting Technology: Surface Mount; Code_JEDEC: MO-229; ComponentLink1Description: Manufacturer URL; ComponentLink1URL: http://www.linear.com/; ComponentLink2Description: Datasheet; ComponentLink2URL: http://cds.linear.com/docs/en/datasheet/29178fb.pdf; ComponentLink3Description: Package Specification; ComponentLink3URL: http://cds.linear.com/docs/en/packaging/DFN_10_05-08-1722.pdf
footprint LT-DDB-10_V (SON, 10-Leads, Body 3x2mm, Pitch 0.5mm, Thermal Pad 2.39x0.64mm)
pins: 1 GND (power) "Device Ground.", 2 ~{MR} (in) "Manual Reset Input (Active Low). A low level on the M\R\ input causes the part to issue a reset, which is released one reset timeout after the input goes high. The pin has an internal 100k pull-up to VCC, and thus may (See Datasheet)", 3 SEL2 (in) "Monitor Voltage Select Three-State Input. SEL1, and SEL2 control the nominal threshold voltage that VM is set to monitor. Connect to VCC, GND or leave unconnected in open state. (See Table 1).", 4 SEL1 (in) "Monitor Voltage Select Three-State Input. SEL1, and SEL2 control the nominal threshold voltage that VM is set to monitor. Connect to VCC, GND or leave unconnected in open state. (See Table 1).", 5 VM (in) "Voltage Monitor Input to R\S\T\ comparator. SEL1, SEL2 and TOL inputs select the exact threshold that asserts the R\S\T\ output.", 6 VCC (power) "Power Supply input. Bypass this pin to ground with a 0.1uF ceramic capacitor. A minimum of 1.5V on VCC ensures that the part is out of under voltage lockout and that the voltage thresholds are accurate. Operates as a direct (See Datasheet)", 7 WDI (in) "Watchdog Input. This pin must be driven to change state within a time less than the watchdog upper boundary time, or R\S\T\ will be asserted low. On the LTC2917-B, LTC2918-B, the period must also be greater than the watchdog (See Datasheet)", 8 WT (in) "Watchdog Timer Control Pin. Attach an external capacitor (CWT) to GND to set a watchdog upper boundary timeout time of 72ms/nF. Tie WT to VCC to generate a timeout of approximately 1.6s. Leave WT open to generate a timeout (See Datasheet)", 9 RT (in) "Reset Timeout Control Pin. Attach an external capacitor (CRT) to GND to set a reset timeout of 9ms/nF. Leave RT open to generate a reset timeout of approximately 400us. Tie RT to VCC to generate a reset timeout of (See Datasheet)", 10 ~{RST} (oc) "Open Drain R\S\T\ Output. Asserts low when VM is below the threshold selected by SEL1, SEL2 and TOL input pins. Held low for an adjustable timeout after VM input is above threshold.", 11 EP (power) "Exposed Pad may be left open or connected to device ground."

## LTC2918HDDB-B1#TRPBF
designator U?
Low Voltage Supervisor with 27 Selectable Thresholds and Watchdog Timer, 10-pin SON (DDB10), -40 to 125 degC, Pb-Free, Tape and Reel; Manufacturer: Linear Technology; PartNumber: LTC2918HDDB-B1#TRPBF; Number of Supplies(#): 1; DatasheetVersion: Rev. B; PackageVersion: Rev. Ø, 06/2010; PackageReference: DDB10; PackageDescription: 10-Pin Plastic DFN, Body 3 x 2 mm, Pitch 0.5 mm; Supplier 1: Digi-Key; Supplier Part Number 1: LTC2918HDDB-B1#TRPBF-ND; Packing: Tape and Reel; RoHS: TRUE; Mounting Technology: Surface Mount; Code_JEDEC: MO-229; ComponentLink1Description: Manufacturer URL; ComponentLink1URL: http://www.linear.com/; ComponentLink2Description: Datasheet; ComponentLink2URL: http://cds.linear.com/docs/en/datasheet/29178fb.pdf; ComponentLink3Description: Package Specification; ComponentLink3URL: http://cds.linear.com/docs/en/packaging/DFN_10_05-08-1722.pdf
footprint LT-DDB-10_V (SON, 10-Leads, Body 3x2mm, Pitch 0.5mm, Thermal Pad 2.39x0.64mm)
pins: 1 GND (power) "Device Ground.", 2 ~{MR} (in) "Manual Reset Input (Active Low). A low level on the M\R\ input causes the part to issue a reset, which is released one reset timeout after the input goes high. The pin has an internal 100k pull-up to VCC, and thus may (See Datasheet)", 3 SEL2 (in) "Monitor Voltage Select Three-State Input. SEL1, and SEL2 control the nominal threshold voltage that VM is set to monitor. Connect to VCC, GND or leave unconnected in open state. (See Table 1).", 4 SEL1 (in) "Monitor Voltage Select Three-State Input. SEL1, and SEL2 control the nominal threshold voltage that VM is set to monitor. Connect to VCC, GND or leave unconnected in open state. (See Table 1).", 5 VM (in) "Voltage Monitor Input to R\S\T\ comparator. SEL1, SEL2 and TOL inputs select the exact threshold that asserts the R\S\T\ output.", 6 VCC (power) "Power Supply input. Bypass this pin to ground with a 0.1uF ceramic capacitor. A minimum of 1.5V on VCC ensures that the part is out of under voltage lockout and that the voltage thresholds are accurate. Operates as a direct (See Datasheet)", 7 WDI (in) "Watchdog Input. This pin must be driven to change state within a time less than the watchdog upper boundary time, or R\S\T\ will be asserted low. On the LTC2917-B, LTC2918-B, the period must also be greater than the watchdog (See Datasheet)", 8 WT (in) "Watchdog Timer Control Pin. Attach an external capacitor (CWT) to GND to set a watchdog upper boundary timeout time of 72ms/nF. Tie WT to VCC to generate a timeout of approximately 1.6s. Leave WT open to generate a timeout (See Datasheet)", 9 RT (in) "Reset Timeout Control Pin. Attach an external capacitor (CRT) to GND to set a reset timeout of 9ms/nF. Leave RT open to generate a reset timeout of approximately 400us. Tie RT to VCC to generate a reset timeout of (See Datasheet)", 10 ~{RST} (oc) "Open Drain R\S\T\ Output. Asserts low when VM is below the threshold selected by SEL1, SEL2 and TOL input pins. Held low for an adjustable timeout after VM input is above threshold.", 11 EP (power) "Exposed Pad may be left open or connected to device ground."